# Altium schematic symbol library UJ2-B-HR-G-V.SchLib: 1 symbol
Pins are listed as number, name and electrical type; pins without a type are passive.

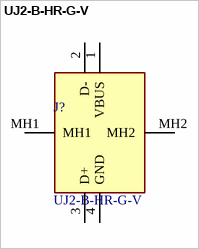
[diagram p0: symbol UJ2-B-HR-G-V]

## UJ2-B-HR-G-V
designator J?
Type B, USB 2.0, 480 Mbps, 5 Vdc, 1.5 A, Vertical, Through Hole Mounting Style, Through Hole Contact Pin Type. Gold Flash, Board Lock, 4 Pin, USB Receptacle; Manufacturer_Name: Same Sky; Geometry.Height: 16.5mm; Mouser Part Number: 179-UJ2-B-HR-G-V; Mouser Price/Stock: https://www.mouser.co.uk/ProductDetail/CUI-Devices/UJ2-B-HR-G-V?qs=HoCaDK9Nz5fUWn12FBL%2Fqw%3D%3D; Manufacturer_Part_Number: UJ2-B-HR-G-V; Datasheet Link: https://www.sameskydevices.com/product/resource/uj2-b-hr-g-v.pdf
footprint UJ2BHRGV
pins: 1 VBUS, 2 D-, 3 D+, 4 GND, MH1, MH2